# Altium integrated library Capacitor - Ceramic - Sumsung.IntLib: 1421 symbols (part 11 of 22)
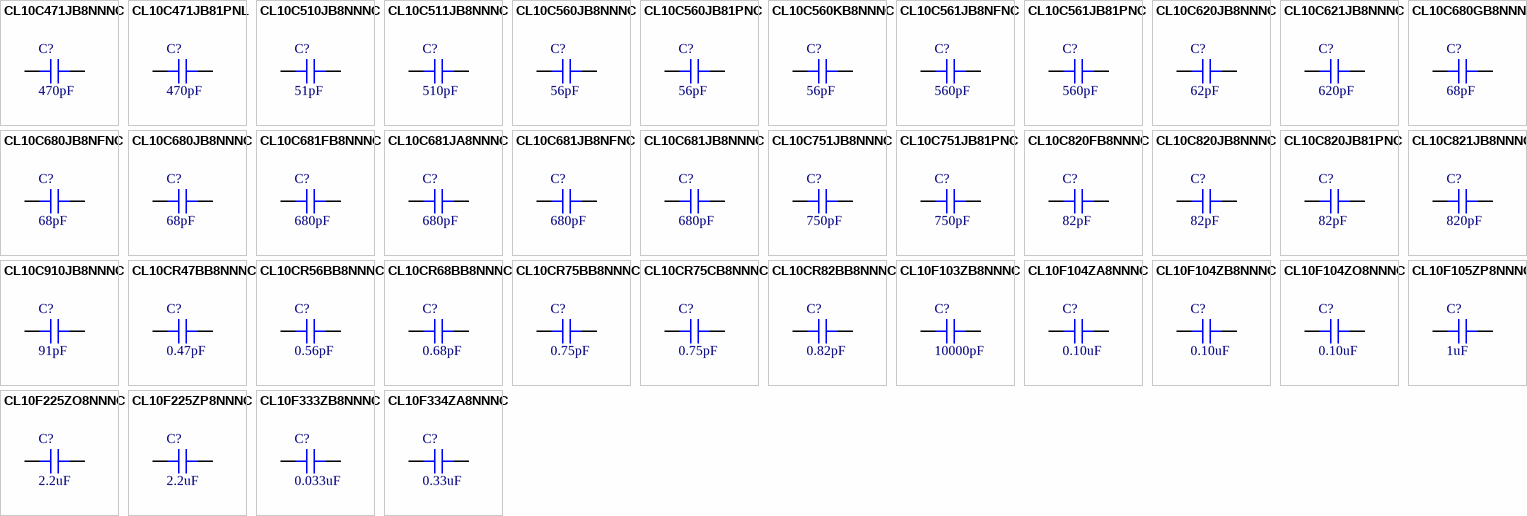
[diagram p45: symbols CL10C471JB8NNNC to CL10F334ZA8NNNC]

## CL10CR75CB8NNNC
designator C?, comment 0.75pF
CAP CER 0.75PF 50V NP0 0603; Part Number: CL10CR75CB8NNNC; Manufacturer: Samsung Electro-Mechanics America, Inc.; TemperatureRange: -55C ~ 125C; TemperatureCoefficient: C0G, NP0; Tolerance: 0.25pF; Value: 0.75pF; PartId: 5391; Supplier 1: Digi-Key; Supplier Part Number 1: 1276-2359-2-ND; ComponentLink1Description: Datasheet; ComponentLink1URL: http://media.digikey.com/pdf/Data%20Sheets/Samsung%20PDFs/CL10CR75CB8NNNC_Spec.pdf; ComponentLink2Description: Digi-Key listing; ComponentLink2URL: http://digikey.com/product-detail/en/CL10CR75CB8NNNC/1276-2359-2-ND/3888017; Voltage: 50V; Price: 0.0107; Type: -; Device Package: 0603 (1608 Metric)
footprint CAP 0603/1608
pins: 1, 2

## CL10CR82BB8NNNC
designator C?, comment 0.82pF
CAP CER 0.82PF 50V NP0 0603; Part Number: CL10CR82BB8NNNC; Manufacturer: Samsung Electro-Mechanics America, Inc.; TemperatureRange: -55C ~ 125C; TemperatureCoefficient: C0G, NP0; Tolerance: 0.1pF; Value: 0.82pF; PartId: 5257; Supplier 1: Digi-Key; Supplier Part Number 1: 1276-2360-2-ND; ComponentLink1Description: Datasheet; ComponentLink1URL: http://media.digikey.com/pdf/Data%20Sheets/Samsung%20PDFs/CL10CR82BB8NNNC_Spec.pdf; ComponentLink2Description: Digi-Key listing; ComponentLink2URL: http://digikey.com/product-detail/en/CL10CR82BB8NNNC/1276-2360-2-ND/3888018; Voltage: 50V; Price: 0.0034; Type: -; Device Package: 0603 (1608 Metric)
footprint CAP 0603/1608
pins: 1, 2

## CL10F103ZB8NNNC
designator C?, comment 10000pF
CAP CER 10000PF 50V Y5V 0603; Part Number: CL10F103ZB8NNNC; Manufacturer: Samsung Electro-Mechanics; TemperatureRange: -30C ~ 85C; TemperatureCoefficient: Y5V (F); Tolerance: -20%, +80%; Value: 10000pF; PartId: 30259; Supplier 1: Digi-Key; Supplier Part Number 1: 1276-2361-2-ND; ComponentLink1Description: Datasheet; ComponentLink1URL: http://www.samsungsem.com/kr/support/product-search/mlcc/CL10F103ZB8NNNC.jsp; ComponentLink2Description: Digi-Key Listing; ComponentLink2URL: https://www.digikey.com/product-detail/en/samsung-electro-mechanics/CL10F103ZB8NNNC/1276-2361-2-ND/3888019; Voltage: 50V; Price: 0; Device Package: 0603 (1608 Metric)
footprint CAP 0603/1608
pins: 1, 2

## CL10F104ZA8NNNC
designator C?, comment 0.10uF
CAP CER 0.1UF 25V Y5V 0603; Part Number: CL10F104ZA8NNNC; Manufacturer: Samsung Electro-Mechanics America, Inc.; TemperatureRange: -30C ~ 85C; TemperatureCoefficient: Y5V (F); Tolerance: -20%, +80%; Value: 0.10uF; PartId: 13015; Supplier 1: Digi-Key; Supplier Part Number 1: 1276-1011-2-ND; ComponentLink1Description: Datasheet; ComponentLink1URL: http://www.samsungsem.com/kr/support/product-search/mlcc/CL10F104ZA8NNNC.jsp; ComponentLink2Description: Digi-Key Listing; ComponentLink2URL: https://www.digikey.com/product-detail/en/samsung-electro-mechanics-america-inc/CL10F104ZA8NNNC/1276-1011-2-ND/3886669; Voltage: 25V; Price: 0.0032; Device Package: 0603 (1608 Metric)
footprint CAP 0603/1608
pins: 1, 2

## CL10F104ZB8NNNC
designator C?, comment 0.10uF
CAP CER 0.1UF 50V Y5V 0603; Part Number: CL10F104ZB8NNNC; Manufacturer: Samsung Electro-Mechanics America, Inc.; TemperatureRange: -30C ~ 85C; TemperatureCoefficient: Y5V (F); Tolerance: -20%, +80%; Value: 0.10uF; PartId: 12990; Supplier 1: Digi-Key; Supplier Part Number 1: 1276-1012-2-ND; ComponentLink1Description: Datasheet; ComponentLink1URL: http://www.samsungsem.com/kr/support/product-search/mlcc/CL10F104ZB8NNNC.jsp; ComponentLink2Description: Digi-Key Listing; ComponentLink2URL: https://www.digikey.com/product-detail/en/samsung-electro-mechanics-america-inc/CL10F104ZB8NNNC/1276-1012-2-ND/3886670; Voltage: 50V; Price: 0.0032; Device Package: 0603 (1608 Metric)
footprint CAP 0603/1608
pins: 1, 2

## CL10F104ZO8NNNC
designator C?, comment 0.10uF
CAP CER 0.1UF 16V Y5V 0603; Part Number: CL10F104ZO8NNNC; Manufacturer: Samsung Electro-Mechanics America, Inc.; TemperatureRange: -30C ~ 85C; TemperatureCoefficient: Y5V (F); Tolerance: -20%, +80%; Value: 0.10uF; PartId: 13336; Supplier 1: Digi-Key; Supplier Part Number 1: 1276-1258-2-ND; ComponentLink1Description: Datasheet; ComponentLink1URL: http://www.samsungsem.com/kr/support/product-search/mlcc/CL10F104ZO8NNNC.jsp; ComponentLink2Description: Digi-Key Listing; ComponentLink2URL: https://www.digikey.com/product-detail/en/samsung-electro-mechanics-america-inc/CL10F104ZO8NNNC/1276-1258-2-ND/3886916; Voltage: 16V; Price: 0.0032; Device Package: 0603 (1608 Metric)
footprint CAP 0603/1608
pins: 1, 2

## CL10F105ZP8NNNC
designator C?, comment 1uF
CAP CER 1UF 10V Y5V 0603; Part Number: CL10F105ZP8NNNC; Manufacturer: Samsung Electro-Mechanics America, Inc.; TemperatureRange: -30C ~ 85C; TemperatureCoefficient: Y5V (F); Tolerance: -20%, +80%; Value: 1uF; PartId: 13159; Supplier 1: Digi-Key; Supplier Part Number 1: 1276-1041-2-ND; ComponentLink1Description: Datasheet; ComponentLink1URL: http://www.samsungsem.com/kr/support/product-search/mlcc/CL10F105ZP8NNNC.jsp; ComponentLink2Description: Digi-Key Listing; ComponentLink2URL: https://www.digikey.com/product-detail/en/samsung-electro-mechanics-america-inc/CL10F105ZP8NNNC/1276-1041-2-ND/3886699; Voltage: 10V; Price: 0.006; Device Package: 0603 (1608 Metric)
footprint CAP 0603/1608
pins: 1, 2

## CL10F225ZO8NNNC
designator C?, comment 2.2uF
CAP CER 2.2UF 16V Y5V 0603; Part Number: CL10F225ZO8NNNC; Manufacturer: Samsung Electro-Mechanics; TemperatureRange: -30C ~ 85C; TemperatureCoefficient: Y5V (F); Tolerance: -20%, +80%; Value: 2.2uF; PartId: 30535; Supplier 1: Digi-Key; Supplier Part Number 1: 1276-6592-2-ND; ComponentLink1Description: Datasheet; ComponentLink1URL: http://www.samsungsem.com/kr/support/product-search/mlcc/CL10F225ZO8NNNC.jsp; ComponentLink2Description: Digi-Key Listing; ComponentLink2URL: https://www.digikey.com/product-detail/en/samsung-electro-mechanics/CL10F225ZO8NNNC/1276-6592-2-ND/5961076; Voltage: 16V; Price: 0; Device Package: 0603 (1608 Metric)
footprint CAP 0603/1608
pins: 1, 2

## CL10F225ZP8NNNC
designator C?, comment 2.2uF
CAP CER 2.2UF 10V Y5V 0603; Part Number: CL10F225ZP8NNNC; Manufacturer: Samsung Electro-Mechanics; TemperatureRange: -30C ~ 85C; TemperatureCoefficient: Y5V (F); Tolerance: -20%, +80%; Value: 2.2uF; PartId: 30683; Supplier 1: Digi-Key; Supplier Part Number 1: 1276-1821-2-ND; ComponentLink1Description: Datasheet; ComponentLink1URL: http://www.samsungsem.com/kr/support/product-search/mlcc/CL10F225ZP8NNNC.jsp; ComponentLink2Description: Digi-Key Listing; ComponentLink2URL: https://www.digikey.com/product-detail/en/samsung-electro-mechanics/CL10F225ZP8NNNC/1276-1821-2-ND/3887479; Voltage: 10V; Price: 0; Device Package: 0603 (1608 Metric)
footprint CAP 0603/1608
pins: 1, 2

## CL10F333ZB8NNNC
designator C?, comment 0.033uF
CAP CER 0.033UF 50V Y5V 0603; Part Number: CL10F333ZB8NNNC; Manufacturer: Samsung Electro-Mechanics; TemperatureRange: -30C ~ 85C; TemperatureCoefficient: Y5V (F); Tolerance: -20%, +80%; Value: 0.033uF; PartId: 30209; Supplier 1: Digi-Key; Supplier Part Number 1: 1276-2369-2-ND; ComponentLink1Description: Datasheet; ComponentLink1URL: http://www.samsungsem.com/kr/support/product-search/mlcc/CL10F333ZB8NNNC.jsp; ComponentLink2Description: Digi-Key Listing; ComponentLink2URL: https://www.digikey.com/product-detail/en/samsung-electro-mechanics/CL10F333ZB8NNNC/1276-2369-2-ND/3888027; Voltage: 50V; Price: 0; Device Package: 0603 (1608 Metric)
footprint CAP 0603/1608
pins: 1, 2

## CL10F334ZA8NNNC
designator C?, comment 0.33uF
CAP CER 0.33UF 25V Y5V 0603; Part Number: CL10F334ZA8NNNC; Manufacturer: Samsung Electro-Mechanics; TemperatureRange: -30C ~ 85C; TemperatureCoefficient: Y5V (F); Tolerance: -20%, +80%; Value: 0.33uF; PartId: 30419; Supplier 1: Digi-Key; Supplier Part Number 1: 1276-2370-2-ND; ComponentLink1Description: Datasheet; ComponentLink1URL: http://www.samsungsem.com/kr/support/product-search/mlcc/CL10F334ZA8NNNC.jsp; ComponentLink2Description: Digi-Key Listing; ComponentLink2URL: https://www.digikey.com/product-detail/en/samsung-electro-mechanics/CL10F334ZA8NNNC/1276-2370-2-ND/3888028; Voltage: 25V; Price: 0; Device Package: 0603 (1608 Metric)
footprint CAP 0603/1608
pins: 1, 2

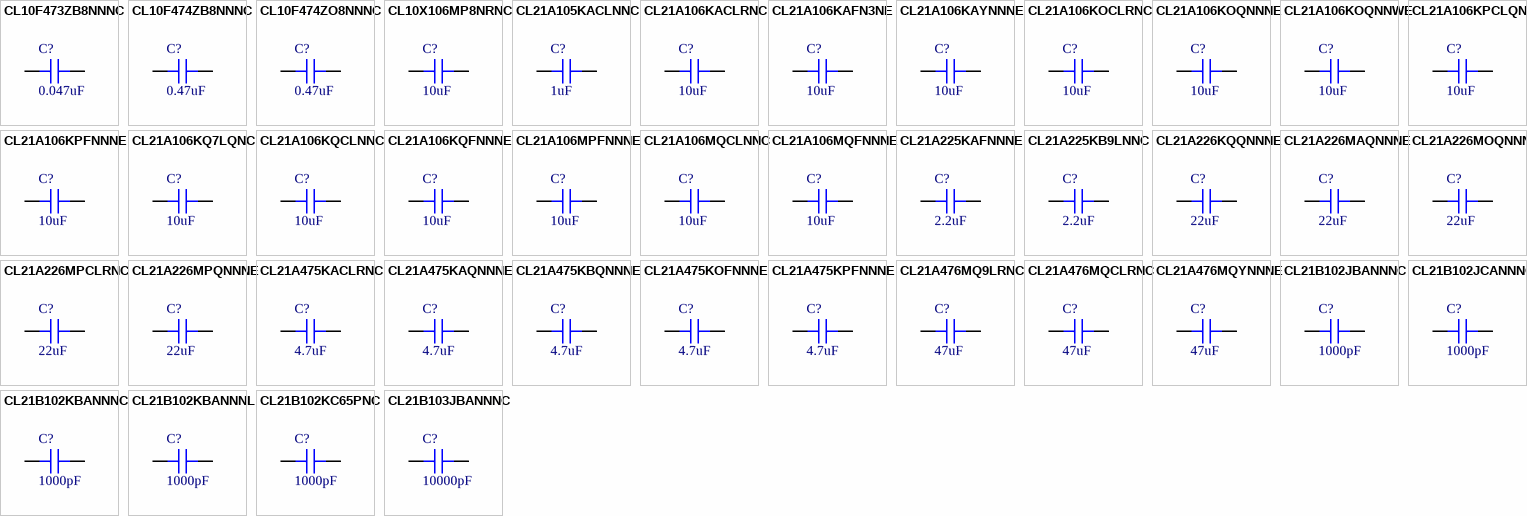
[diagram p17: symbols CL10F473ZB8NNNC to CL21B103JBANNNC]

## CL10F473ZB8NNNC
designator C?, comment 0.047uF
CAP CER 0.047UF 50V Y5V 0603; Part Number: CL10F473ZB8NNNC; Manufacturer: Samsung Electro-Mechanics; TemperatureRange: -30C ~ 85C; TemperatureCoefficient: Y5V (F); Tolerance: -20%, +80%; Value: 0.047uF; PartId: 30229; Supplier 1: Digi-Key; Supplier Part Number 1: 1276-2374-2-ND; ComponentLink1Description: Datasheet; ComponentLink1URL: http://www.samsungsem.com/kr/support/product-search/mlcc/CL10F473ZB8NNNC.jsp; ComponentLink2Description: Digi-Key Listing; ComponentLink2URL: https://www.digikey.com/product-detail/en/samsung-electro-mechanics/CL10F473ZB8NNNC/1276-2374-2-ND/3888032; Voltage: 50V; Price: 0; Device Package: 0603 (1608 Metric)
footprint CAP 0603/1608
pins: 1, 2

## CL10F474ZB8NNNC
designator C?, comment 0.47uF
CAP CER 0.47UF 50V Y5V 0603; Part Number: CL10F474ZB8NNNC; Manufacturer: Samsung Electro-Mechanics America, Inc.; TemperatureRange: -30C ~ 85C; TemperatureCoefficient: Y5V (F); Tolerance: -20%, +80%; Value: 0.47uF; PartId: 13475; Supplier 1: Digi-Key; Supplier Part Number 1: 1276-2377-2-ND; ComponentLink1Description: Datasheet; ComponentLink1URL: http://www.samsungsem.com/kr/support/product-search/mlcc/CL10F474ZB8NNNC.jsp; ComponentLink2Description: Digi-Key Listing; ComponentLink2URL: https://www.digikey.com/product-detail/en/samsung-electro-mechanics-america-inc/CL10F474ZB8NNNC/1276-2377-2-ND/3888035; Voltage: 50V; Price: 0.0073; Device Package: 0603 (1608 Metric)
footprint CAP 0603/1608
pins: 1, 2

## CL10F474ZO8NNNC
designator C?, comment 0.47uF
CAP CER 0.47UF 16V Y5V 0603; Part Number: CL10F474ZO8NNNC; Manufacturer: Samsung Electro-Mechanics; TemperatureRange: -30C ~ 85C; TemperatureCoefficient: Y5V (F); Tolerance: -20%, +80%; Value: 0.47uF; PartId: 30412; Supplier 1: Digi-Key; Supplier Part Number 1: 1276-2378-2-ND; ComponentLink1Description: Datasheet; ComponentLink1URL: http://www.samsungsem.com/kr/support/product-search/mlcc/CL10F474ZO8NNNC.jsp; ComponentLink2Description: Digi-Key Listing; ComponentLink2URL: https://www.digikey.com/product-detail/en/samsung-electro-mechanics/CL10F474ZO8NNNC/1276-2378-2-ND/3888036; Voltage: 16V; Price: 0; Device Package: 0603 (1608 Metric)
footprint CAP 0603/1608
pins: 1, 2

## CL10X106MP8NRNC
designator C?, comment 10uF
CAP CER 10UF 10V X6S 0603; Part Number: CL10X106MP8NRNC; Manufacturer: Samsung Electro-Mechanics America, Inc.; TemperatureRange: -55C ~ 105C; Tolerance: 20%; Value: 10uF; PartId: 13239; Supplier 1: Digi-Key; Supplier Part Number 1: 1276-2383-2-ND; ComponentLink1Description: Datasheet; ComponentLink1URL: http://www.samsungsem.com/kr/support/product-search/mlcc/CL10X106MP8NRNC.jsp; ComponentLink2Description: Digi-Key Listing; ComponentLink2URL: https://www.digikey.com/product-detail/en/samsung-electro-mechanics-america-inc/CL10X106MP8NRNC/1276-2383-2-ND/3888041; TemperatureCoefficient: X6S; Voltage: 10V; Price: 0.0788; Device Package: 0603 (1608 Metric)
footprint CAP 0603/1608
pins: 1, 2

## CL21A105KACLNNC
designator C?, comment 1uF
CAP CER 1UF 25V X5R 0805; Part Number: CL21A105KACLNNC; Manufacturer: Samsung Electro-Mechanics America, Inc.; TemperatureRange: -55C ~ 85C; Tolerance: 10%; Value: 1uF; PartId: 14241; Supplier 1: Digi-Key; Supplier Part Number 1: 1276-2395-2-ND; ComponentLink1Description: Datasheet; ComponentLink1URL: //media.digikey.com/pdf/Data%20Sheets/Samsung%20PDFs/CL21A105KACLNNC_Spec.pdf; ComponentLink2Description: Digi-Key Listing; ComponentLink2URL: https://www.digikey.com/product-detail/en/samsung-electro-mechanics-america-inc/CL21A105KACLNNC/1276-2395-2-ND/3888053; TemperatureCoefficient: X5R; Voltage: 25V; Price: 0.0236; Device Package: 0805 (2012 Metric)
footprint CAP 0805/2012
pins: 1, 2

## CL21A106KACLRNC
designator C?, comment 10uF
CAP CER 10UF 25V X5R 0805; Part Number: CL21A106KACLRNC; Manufacturer: Samsung Electro-Mechanics America, Inc.; TemperatureRange: -55C ~ 85C; Tolerance: 10%; Value: 10uF; PartId: 13891; Supplier 1: Digi-Key; Supplier Part Number 1: 1276-2397-2-ND; ComponentLink1Description: Datasheet; ComponentLink1URL: http://www.samsungsem.com/kr/support/product-search/mlcc/CL21A106KACLRNC.jsp; ComponentLink2Description: Digi-Key Listing; ComponentLink2URL: https://www.digikey.com/product-detail/en/samsung-electro-mechanics-america-inc/CL21A106KACLRNC/1276-2397-2-ND/3888055; TemperatureCoefficient: X5R; Voltage: 25V; Price: 0.0977; Device Package: 0805 (2012 Metric)
footprint CAP 0805/2012
pins: 1, 2

## CL21A106KAFN3NE
designator C?, comment 10uF
CAP CER 10UF 25V X5R 0805; Part Number: CL21A106KAFN3NE; Manufacturer: Samsung Electro-Mechanics America, Inc.; TemperatureRange: -55C ~ 85C; Tolerance: 10%; Value: 10uF; PartId: 13766; Supplier 1: Digi-Key; Supplier Part Number 1: 1276-2890-2-ND; ComponentLink1Description: Datasheet; ComponentLink1URL: //media.digikey.com/pdf/Data%20Sheets/Samsung%20PDFs/CL21A106KAFN3NE_Spec.pdf; ComponentLink2Description: Digi-Key Listing; ComponentLink2URL: https://www.digikey.com/product-detail/en/samsung-electro-mechanics-america-inc/CL21A106KAFN3NE/1276-2890-2-ND/3888548; TemperatureCoefficient: X5R; Voltage: 25V; Price: 0.0396; Device Package: 0805 (2012 Metric)
footprint CAP 0805/2012
pins: 1, 2

## CL21A106KAYNNNE
designator C?, comment 10uF
CAP CER 10UF 25V X5R 0805; Part Number: CL21A106KAYNNNE; Manufacturer: Samsung Electro-Mechanics America, Inc.; TemperatureRange: -55C ~ 85C; Tolerance: 10%; Value: 10uF; PartId: 13738; Supplier 1: Digi-Key; Supplier Part Number 1: 1276-2891-2-ND; ComponentLink1Description: Datasheet; ComponentLink1URL: http://www.samsungsem.com/kr/support/product-search/mlcc/CL21A106KAYNNNE.jsp; ComponentLink2Description: Digi-Key Listing; ComponentLink2URL: https://www.digikey.com/product-detail/en/samsung-electro-mechanics-america-inc/CL21A106KAYNNNE/1276-2891-2-ND/3888549; TemperatureCoefficient: X5R; Voltage: 25V; Price: 0.044; Device Package: 0805 (2012 Metric)
footprint CAP 0805/2012
pins: 1, 2

## CL21A106KOCLRNC
designator C?, comment 10uF
CAP CER 10UF 16V X5R 0805; Part Number: CL21A106KOCLRNC; Manufacturer: Samsung Electro-Mechanics America, Inc.; TemperatureRange: -55C ~ 85C; Tolerance: 10%; Value: 10uF; PartId: 13869; Supplier 1: Digi-Key; Supplier Part Number 1: 1276-2399-2-ND; ComponentLink1Description: Datasheet; ComponentLink1URL: http://www.samsungsem.com/kr/support/product-search/mlcc/CL21A106KOCLRNC.jsp; ComponentLink2Description: Digi-Key Listing; ComponentLink2URL: https://www.digikey.com/product-detail/en/samsung-electro-mechanics-america-inc/CL21A106KOCLRNC/1276-2399-2-ND/3888057; TemperatureCoefficient: X5R; Voltage: 16V; Price: 0.033; Device Package: 0805 (2012 Metric)
footprint CAP 0805/2012
pins: 1, 2

## CL21A106KOQNNNE
designator C?, comment 10uF
CAP CER 10UF 16V X5R 0805; Part Number: CL21A106KOQNNNE; Manufacturer: Samsung Electro-Mechanics America, Inc.; TemperatureRange: -55C ~ 85C; Tolerance: 10%; Value: 10uF; PartId: 13807; Supplier 1: Digi-Key; Supplier Part Number 1: 1276-1096-2-ND; ComponentLink1Description: Datasheet; ComponentLink1URL: http://www.samsungsem.com/kr/support/product-search/mlcc/CL21A106KOQNNNE.jsp; ComponentLink2Description: Digi-Key Listing; ComponentLink2URL: https://www.digikey.com/product-detail/en/samsung-electro-mechanics-america-inc/CL21A106KOQNNNE/1276-1096-2-ND/3886754; TemperatureCoefficient: X5R; Voltage: 16V; Price: 0.0363; Device Package: 0805 (2012 Metric)
footprint CAP 0805/2012
pins: 1, 2

## CL21A106KOQNNWE
designator C?, comment 10uF
CAP CER 10UF 16V X5R 0805; Part Number: CL21A106KOQNNWE; Manufacturer: Samsung Electro-Mechanics America, Inc.; TemperatureRange: -55C ~ 85C; Tolerance: 10%; Value: 10uF; PartId: 14194; Supplier 1: Digi-Key; Supplier Part Number 1: 1276-2894-2-ND; ComponentLink1Description: Datasheet; ComponentLink1URL: //media.digikey.com/pdf/Data%20Sheets/Samsung%20PDFs/CL21A106KOQNNWE_Spec.pdf; ComponentLink2Description: Digi-Key Listing; ComponentLink2URL: https://www.digikey.com/product-detail/en/samsung-electro-mechanics-america-inc/CL21A106KOQNNWE/1276-2894-2-ND/3888552; TemperatureCoefficient: X5R; Voltage: 16V; Price: 0.0363; Device Package: 0805 (2012 Metric)
footprint CAP 0805/2012
pins: 1, 2

## CL21A106KPCLQNC
designator C?, comment 10uF
CAP CER 10UF 10V X5R 0805; Part Number: CL21A106KPCLQNC; Manufacturer: Samsung Electro-Mechanics America, Inc.; TemperatureRange: -55C ~ 85C; Tolerance: 10%; Value: 10uF; PartId: 13829; Supplier 1: Digi-Key; Supplier Part Number 1: 1276-2402-2-ND; ComponentLink1Description: Datasheet; ComponentLink1URL: //media.digikey.com/pdf/Data%20Sheets/Samsung%20PDFs/CL21A106KPCLQNC_character.pdf; ComponentLink2Description: Digi-Key Listing; ComponentLink2URL: https://www.digikey.com/product-detail/en/samsung-electro-mechanics-america-inc/CL21A106KPCLQNC/1276-2402-2-ND/3888060; TemperatureCoefficient: X5R; Voltage: 10V; Price: 0.0301; Device Package: 0805 (2012 Metric)
footprint CAP 0805/2012
pins: 1, 2

## CL21A106KPFNNNE
designator C?, comment 10uF
CAP CER 10UF 10V X5R 0805; Part Number: CL21A106KPFNNNE; Manufacturer: Samsung Electro-Mechanics America, Inc.; TemperatureRange: -55C ~ 85C; Tolerance: 10%; Value: 10uF; PartId: 13860; Supplier 1: Digi-Key; Supplier Part Number 1: 1276-1052-2-ND; ComponentLink1Description: Datasheet; ComponentLink1URL: http://www.samsungsem.com/kr/support/product-search/mlcc/CL21A106KPFNNNE.jsp; ComponentLink2Description: Digi-Key Listing; ComponentLink2URL: https://www.digikey.com/product-detail/en/samsung-electro-mechanics-america-inc/CL21A106KPFNNNE/1276-1052-2-ND/3886710; TemperatureCoefficient: X5R; Voltage: 10V; Price: 0.0329; Device Package: 0805 (2012 Metric)
footprint CAP 0805/2012
pins: 1, 2

## CL21A106KQ7LQNC
designator C?, comment 10uF
CAP CER 10UF 6.3V X5R 0805; Part Number: CL21A106KQ7LQNC; Manufacturer: Samsung Electro-Mechanics America, Inc.; TemperatureRange: -55C ~ 85C; Tolerance: 10%; Value: 10uF; PartId: 14220; Supplier 1: Digi-Key; Supplier Part Number 1: 1276-2403-2-ND; ComponentLink1Description: Datasheet; ComponentLink1URL: //media.digikey.com/pdf/Data%20Sheets/Samsung%20PDFs/CL21A106KQ7LQNC_Spec.pdf; ComponentLink2Description: Digi-Key Listing; ComponentLink2URL: https://www.digikey.com/product-detail/en/samsung-electro-mechanics-america-inc/CL21A106KQ7LQNC/1276-2403-2-ND/3888061; TemperatureCoefficient: X5R; Voltage: 6.3V; Price: 0.0281; Device Package: 0805 (2012 Metric)
footprint CAP 0805/2012
pins: 1, 2

## CL21A106KQCLNNC
designator C?, comment 10uF
CAP CER 10UF 6.3V X5R 0805; Part Number: CL21A106KQCLNNC; Manufacturer: Samsung Electro-Mechanics America, Inc.; TemperatureRange: -55C ~ 85C; Tolerance: 10%; Value: 10uF; PartId: 14053; Supplier 1: Digi-Key; Supplier Part Number 1: 1276-2404-2-ND; ComponentLink1Description: Datasheet; ComponentLink1URL: http://www.samsungsem.com/kr/support/product-search/mlcc/CL21A106KQCLNNC.jsp; ComponentLink2Description: Digi-Key Listing; ComponentLink2URL: https://www.digikey.com/product-detail/en/samsung-electro-mechanics-america-inc/CL21A106KQCLNNC/1276-2404-2-ND/3888062; TemperatureCoefficient: X5R; Voltage: 6.3V; Price: 0.0225; Device Package: 0805 (2012 Metric)
footprint CAP 0805/2012
pins: 1, 2

## CL21A106KQFNNNE
designator C?, comment 10uF
CAP CER 10UF 6.3V X5R 0805; Part Number: CL21A106KQFNNNE; Manufacturer: Samsung Electro-Mechanics America, Inc.; TemperatureRange: -55C ~ 85C; Tolerance: 10%; Value: 10uF; PartId: 14383; Supplier 1: Digi-Key; Supplier Part Number 1: 1276-1122-2-ND; ComponentLink1Description: Datasheet; ComponentLink1URL: http://www.samsungsem.com/kr/support/product-search/mlcc/CL21A106KQFNNNE.jsp; ComponentLink2Description: Digi-Key Listing; ComponentLink2URL: https://www.digikey.com/product-detail/en/samsung-electro-mechanics-america-inc/CL21A106KQFNNNE/1276-1122-2-ND/3886780; TemperatureCoefficient: X5R; Voltage: 6.3V; Price: 0.0246; Device Package: 0805 (2012 Metric)
footprint CAP 0805/2012
pins: 1, 2

## CL21A106MPFNNNE
designator C?, comment 10uF
CAP CER 10UF 10V X5R 0805; Part Number: CL21A106MPFNNNE; Manufacturer: Samsung Electro-Mechanics America, Inc.; TemperatureRange: -55C ~ 85C; Tolerance: 20%; Value: 10uF; PartId: 14065; Supplier 1: Digi-Key; Supplier Part Number 1: 1276-1144-2-ND; ComponentLink1Description: Datasheet; ComponentLink1URL: http://www.samsungsem.com/kr/support/product-search/mlcc/CL21A106MPFNNNE.jsp; ComponentLink2Description: Digi-Key Listing; ComponentLink2URL: https://www.digikey.com/product-detail/en/samsung-electro-mechanics-america-inc/CL21A106MPFNNNE/1276-1144-2-ND/3886802; TemperatureCoefficient: X5R; Voltage: 10V; Price: 0.0329; Device Package: 0805 (2012 Metric)
footprint CAP 0805/2012
pins: 1, 2

## CL21A106MQCLNNC
designator C?, comment 10uF
CAP CER 10UF 6.3V X5R 0805; Part Number: CL21A106MQCLNNC; Manufacturer: Samsung Electro-Mechanics America, Inc.; TemperatureRange: -55C ~ 85C; Tolerance: 20%; Value: 10uF; PartId: 14052; Supplier 1: Digi-Key; Supplier Part Number 1: 1276-2407-2-ND; ComponentLink1Description: Datasheet; ComponentLink1URL: //media.digikey.com/pdf/Data%20Sheets/Samsung%20PDFs/CL21A106MQCLNNC_Spec.pdf; ComponentLink2Description: Digi-Key Listing; ComponentLink2URL: https://www.digikey.com/product-detail/en/samsung-electro-mechanics-america-inc/CL21A106MQCLNNC/1276-2407-2-ND/3888065; TemperatureCoefficient: X5R; Voltage: 6.3V; Price: 0.0225; Device Package: 0805 (2012 Metric)
footprint CAP 0805/2012
pins: 1, 2

## CL21A106MQFNNNE
designator C?, comment 10uF
CAP CER 10UF 6.3V X5R 0805; Part Number: CL21A106MQFNNNE; Manufacturer: Samsung Electro-Mechanics America, Inc.; TemperatureRange: -55C ~ 85C; Tolerance: 20%; Value: 10uF; PartId: 14350; Supplier 1: Digi-Key; Supplier Part Number 1: 1276-1298-2-ND; ComponentLink1Description: Datasheet; ComponentLink1URL: http://www.samsungsem.com/kr/support/product-search/mlcc/CL21A106MQFNNNE.jsp; ComponentLink2Description: Digi-Key Listing; ComponentLink2URL: https://www.digikey.com/product-detail/en/samsung-electro-mechanics-america-inc/CL21A106MQFNNNE/1276-1298-2-ND/3886956; TemperatureCoefficient: X5R; Voltage: 6.3V; Price: 0.0246; Device Package: 0805 (2012 Metric)
footprint CAP 0805/2012
pins: 1, 2

## CL21A225KAFNNNE
designator C?, comment 2.2uF
CAP CER 2.2UF 25V X5R 0805; Part Number: CL21A225KAFNNNE; Manufacturer: Samsung Electro-Mechanics America, Inc.; TemperatureRange: -55C ~ 85C; Tolerance: 10%; Value: 2.2uF; PartId: 13946; Supplier 1: Digi-Key; Supplier Part Number 1: 1276-1763-2-ND; ComponentLink1Description: Datasheet; ComponentLink1URL: http://www.samsungsem.com/kr/support/product-search/mlcc/CL21A225KAFNNNE.jsp; ComponentLink2Description: Digi-Key Listing; ComponentLink2URL: https://www.digikey.com/product-detail/en/samsung-electro-mechanics-america-inc/CL21A225KAFNNNE/1276-1763-2-ND/3887421; TemperatureCoefficient: X5R; Voltage: 25V; Price: 0.0374; Device Package: 0805 (2012 Metric)
footprint CAP 0805/2012
pins: 1, 2

## CL21A225KB9LNNC
designator C?, comment 2.2uF
CAP CER 2.2UF 50V X5R 0805; Part Number: CL21A225KB9LNNC; Manufacturer: Samsung Electro-Mechanics America, Inc.; TemperatureRange: -55C ~ 85C; Tolerance: 10%; Value: 2.2uF; PartId: 13764; Supplier 1: Digi-Key; Supplier Part Number 1: 1276-2409-2-ND; ComponentLink1Description: Datasheet; ComponentLink1URL: http://www.samsungsem.com/kr/support/product-search/mlcc/CL21A225KB9LNNC.jsp; ComponentLink2Description: Digi-Key Listing; ComponentLink2URL: https://www.digikey.com/product-detail/en/samsung-electro-mechanics-america-inc/CL21A225KB9LNNC/1276-2409-2-ND/3888067; TemperatureCoefficient: X5R; Voltage: 50V; Price: 0.116; Device Package: 0805 (2012 Metric)
footprint CAP 0805/2012
pins: 1, 2

## CL21A226KQQNNNE
designator C?, comment 22uF
CAP CER 22UF 6.3V X5R 0805; Part Number: CL21A226KQQNNNE; Manufacturer: Samsung Electro-Mechanics America, Inc.; TemperatureRange: -55C ~ 85C; Tolerance: 10%; Value: 22uF; PartId: 13798; Supplier 1: Digi-Key; Supplier Part Number 1: 1276-2907-2-ND; ComponentLink1Description: Datasheet; ComponentLink1URL: http://www.samsungsem.com/kr/support/product-search/mlcc/CL21A226KQQNNNE.jsp; ComponentLink2Description: Digi-Key Listing; ComponentLink2URL: https://www.digikey.com/product-detail/en/samsung-electro-mechanics-america-inc/CL21A226KQQNNNE/1276-2907-2-ND/3888565; TemperatureCoefficient: X5R; Voltage: 6.3V; Price: 0.1056; Device Package: 0805 (2012 Metric)
footprint CAP 0805/2012
pins: 1, 2

## CL21A226MAQNNNE
designator C?, comment 22uF
CAP CER 22UF 25V X5R 0805; Part Number: CL21A226MAQNNNE; Manufacturer: Samsung Electro-Mechanics America, Inc.; TemperatureRange: -55C ~ 85C; Tolerance: 20%; Value: 22uF; PartId: 13713; Supplier 1: Digi-Key; Supplier Part Number 1: 1276-2908-2-ND; ComponentLink1Description: Datasheet; ComponentLink1URL: http://www.samsungsem.com/kr/support/product-search/mlcc/CL21A226MAQNNNE.jsp; ComponentLink2Description: Digi-Key Listing; ComponentLink2URL: https://www.digikey.com/product-detail/en/samsung-electro-mechanics-america-inc/CL21A226MAQNNNE/1276-2908-2-ND/3888566; TemperatureCoefficient: X5R; Voltage: 25V; Price: 0.2642; Device Package: 0805 (2012 Metric)
footprint CAP 0805/2012
pins: 1, 2

## CL21A226MOQNNNE
designator C?, comment 22uF
CAP CER 22UF 16V X5R 0805; Part Number: CL21A226MOQNNNE; Manufacturer: Samsung Electro-Mechanics America, Inc.; TemperatureRange: -55C ~ 85C; Tolerance: 20%; Value: 22uF; PartId: 13784; Supplier 1: Digi-Key; Supplier Part Number 1: 1276-2909-2-ND; ComponentLink1Description: Datasheet; ComponentLink1URL: http://www.samsungsem.com/kr/support/product-search/mlcc/CL21A226MOQNNNE.jsp; ComponentLink2Description: Digi-Key Listing; ComponentLink2URL: https://www.digikey.com/product-detail/en/samsung-electro-mechanics-america-inc/CL21A226MOQNNNE/1276-2909-2-ND/3888567; TemperatureCoefficient: X5R; Voltage: 16V; Price: 0.1411; Device Package: 0805 (2012 Metric)
footprint CAP 0805/2012
pins: 1, 2

## CL21A226MPCLRNC
designator C?, comment 22uF
CAP CER 22UF 10V X5R 0805; Part Number: CL21A226MPCLRNC; Manufacturer: Samsung Electro-Mechanics America, Inc.; TemperatureRange: -55C ~ 85C; Tolerance: 20%; Value: 22uF; PartId: 13780; Supplier 1: Digi-Key; Supplier Part Number 1: 1276-1822-2-ND; ComponentLink1Description: Datasheet; ComponentLink1URL: http://www.samsungsem.com/kr/support/product-search/mlcc/CL21A226MPCLRNC.jsp; ComponentLink2Description: Digi-Key Listing; ComponentLink2URL: https://www.digikey.com/product-detail/en/samsung-electro-mechanics-america-inc/CL21A226MPCLRNC/1276-1822-2-ND/3887480; TemperatureCoefficient: X5R; Voltage: 10V; Price: 0.1147; Device Package: 0805 (2012 Metric)
footprint CAP 0805/2012
pins: 1, 2

## CL21A226MPQNNNE
designator C?, comment 22uF
CAP CER 22UF 10V X5R 0805; Part Number: CL21A226MPQNNNE; Manufacturer: Samsung Electro-Mechanics America, Inc.; TemperatureRange: -55C ~ 85C; Tolerance: 20%; Value: 22uF; PartId: 13744; Supplier 1: Digi-Key; Supplier Part Number 1: 1276-2910-2-ND; ComponentLink1Description: Datasheet; ComponentLink1URL: http://www.samsungsem.com/kr/support/product-search/mlcc/CL21A226MPQNNNE.jsp; ComponentLink2Description: Digi-Key Listing; ComponentLink2URL: https://www.digikey.com/product-detail/en/samsung-electro-mechanics-america-inc/CL21A226MPQNNNE/1276-2910-2-ND/3888568; TemperatureCoefficient: X5R; Voltage: 10V; Price: 0.117; Device Package: 0805 (2012 Metric)
footprint CAP 0805/2012
pins: 1, 2

## CL21A475KACLRNC
designator C?, comment 4.7uF
CAP CER 4.7UF 25V X5R 0805; Part Number: CL21A475KACLRNC; Manufacturer: Samsung Electro-Mechanics America, Inc.; TemperatureRange: -55C ~ 85C; Tolerance: 10%; Value: 4.7uF; PartId: 14236; Supplier 1: Digi-Key; Supplier Part Number 1: 1276-2415-2-ND; ComponentLink1Description: Datasheet; ComponentLink1URL: //media.digikey.com/pdf/Data%20Sheets/Samsung%20PDFs/CL21A475KACLRNC_Spec.pdf; ComponentLink2Description: Digi-Key Listing; ComponentLink2URL: https://www.digikey.com/product-detail/en/samsung-electro-mechanics-america-inc/CL21A475KACLRNC/1276-2415-2-ND/3888073; TemperatureCoefficient: X5R; Voltage: 25V; Price: 0.0305; Device Package: 0805 (2012 Metric)
footprint CAP 0805/2012
pins: 1, 2

## CL21A475KAQNNNE
designator C?, comment 4.7uF
CAP CER 4.7UF 25V X5R 0805; Part Number: CL21A475KAQNNNE; Manufacturer: Samsung Electro-Mechanics America, Inc.; TemperatureRange: -55C ~ 85C; Tolerance: 10%; Value: 4.7uF; PartId: 13763; Supplier 1: Digi-Key; Supplier Part Number 1: 1276-1244-2-ND; ComponentLink1Description: Datasheet; ComponentLink1URL: http://www.samsungsem.com/kr/support/product-search/mlcc/CL21A475KAQNNNE.jsp; ComponentLink2Description: Digi-Key Listing; ComponentLink2URL: https://www.digikey.com/product-detail/en/samsung-electro-mechanics-america-inc/CL21A475KAQNNNE/1276-1244-2-ND/3886902; TemperatureCoefficient: X5R; Voltage: 25V; Price: 0.031; Device Package: 0805 (2012 Metric)
footprint CAP 0805/2012
pins: 1, 2

## CL21A475KBQNNNE
designator C?, comment 4.7uF
CAP CER 4.7UF 50V X5R 0805; Part Number: CL21A475KBQNNNE; Manufacturer: Samsung Electro-Mechanics America, Inc.; TemperatureRange: -55C ~ 85C; Tolerance: 10%; Value: 4.7uF; PartId: 13761; Supplier 1: Digi-Key; Supplier Part Number 1: 1276-1248-2-ND; ComponentLink1Description: Datasheet; ComponentLink1URL: http://www.samsungsem.com/kr/support/product-search/mlcc/CL21A475KBQNNNE.jsp; ComponentLink2Description: Digi-Key Listing; ComponentLink2URL: https://www.digikey.com/product-detail/en/samsung-electro-mechanics-america-inc/CL21A475KBQNNNE/1276-1248-2-ND/3886906; TemperatureCoefficient: X5R; Voltage: 50V; Price: 0.0889; Device Package: 0805 (2012 Metric)
footprint CAP 0805/2012
pins: 1, 2

## CL21A475KOFNNNE
designator C?, comment 4.7uF
CAP CER 4.7UF 16V X5R 0805; Part Number: CL21A475KOFNNNE; Manufacturer: Samsung Electro-Mechanics America, Inc.; TemperatureRange: -55C ~ 85C; Tolerance: 10%; Value: 4.7uF; PartId: 13781; Supplier 1: Digi-Key; Supplier Part Number 1: 1276-1065-2-ND; ComponentLink1Description: Datasheet; ComponentLink1URL: http://www.samsungsem.com/kr/support/product-search/mlcc/CL21A475KOFNNNE.jsp; ComponentLink2Description: Digi-Key Listing; ComponentLink2URL: https://www.digikey.com/product-detail/en/samsung-electro-mechanics-america-inc/CL21A475KOFNNNE/1276-1065-2-ND/3886723; TemperatureCoefficient: X5R; Voltage: 16V; Price: 0.0282; Device Package: 0805 (2012 Metric)
footprint CAP 0805/2012
pins: 1, 2

## CL21A475KPFNNNE
designator C?, comment 4.7uF
CAP CER 4.7UF 10V X5R 0805; Part Number: CL21A475KPFNNNE; Manufacturer: Samsung Electro-Mechanics America, Inc.; TemperatureRange: -55C ~ 85C; Tolerance: 10%; Value: 4.7uF; PartId: 13876; Supplier 1: Digi-Key; Supplier Part Number 1: 1276-1259-2-ND; ComponentLink1Description: Datasheet; ComponentLink1URL: http://www.samsungsem.com/kr/support/product-search/mlcc/CL21A475KPFNNNE.jsp; ComponentLink2Description: Digi-Key Listing; ComponentLink2URL: https://www.digikey.com/product-detail/en/samsung-electro-mechanics-america-inc/CL21A475KPFNNNE/1276-1259-2-ND/3886917; TemperatureCoefficient: X5R; Voltage: 10V; Price: 0.0282; Device Package: 0805 (2012 Metric)
footprint CAP 0805/2012
pins: 1, 2

## CL21A476MQ9LRNC
designator C?, comment 47uF
CAP CER 47UF 6.3V X5R 0805; Part Number: CL21A476MQ9LRNC; Manufacturer: Samsung Electro-Mechanics America, Inc.; TemperatureRange: -55C ~ 85C; Tolerance: 20%; Value: 47uF; PartId: 13873; Supplier 1: Digi-Key; Supplier Part Number 1: 1276-2419-2-ND; ComponentLink1Description: Datasheet; ComponentLink1URL: //media.digikey.com/pdf/Data%20Sheets/Samsung%20PDFs/CL21A476MQ9LRNC_Spec.pdf; ComponentLink2Description: Digi-Key Listing; ComponentLink2URL: https://www.digikey.com/product-detail/en/samsung-electro-mechanics-america-inc/CL21A476MQ9LRNC/1276-2419-2-ND/3888077; TemperatureCoefficient: X5R; Voltage: 6.3V; Price: 0.1854; Device Package: 0805 (2012 Metric)
footprint CAP 0805/2012
pins: 1, 2

## CL21A476MQCLRNC
designator C?, comment 47uF
CAP CER 47UF 6.3V X5R 0805; Part Number: CL21A476MQCLRNC; Manufacturer: Samsung Electro-Mechanics America, Inc.; TemperatureRange: -55C ~ 85C; Tolerance: 20%; Value: 47uF; PartId: 13745; Supplier 1: Digi-Key; Supplier Part Number 1: 1276-2420-2-ND; ComponentLink1Description: Datasheet; ComponentLink1URL: http://www.samsungsem.com/kr/support/product-search/mlcc/CL21A476MQCLRNC.jsp; ComponentLink2Description: Digi-Key Listing; ComponentLink2URL: https://www.digikey.com/product-detail/en/samsung-electro-mechanics-america-inc/CL21A476MQCLRNC/1276-2420-2-ND/3888078; TemperatureCoefficient: X5R; Voltage: 6.3V; Price: 0.165; Device Package: 0805 (2012 Metric)
footprint CAP 0805/2012
pins: 1, 2

## CL21A476MQYNNNE
designator C?, comment 47uF
CAP CER 47UF 6.3V X5R 0805; Part Number: CL21A476MQYNNNE; Manufacturer: Samsung Electro-Mechanics America, Inc.; TemperatureRange: -55C ~ 85C; Tolerance: 20%; Value: 47uF; PartId: 13886; Supplier 1: Digi-Key; Supplier Part Number 1: 1276-1852-2-ND; ComponentLink1Description: Datasheet; ComponentLink1URL: http://www.samsungsem.com/kr/support/product-search/mlcc/CL21A476MQYNNNE.jsp; ComponentLink2Description: Digi-Key Listing; ComponentLink2URL: https://www.digikey.com/product-detail/en/samsung-electro-mechanics-america-inc/CL21A476MQYNNNE/1276-1852-2-ND/3887510; TemperatureCoefficient: X5R; Voltage: 6.3V; Price: 0.176; Device Package: 0805 (2012 Metric)
footprint CAP 0805/2012
pins: 1, 2

## CL21B102JBANNNC
designator C?, comment 1000pF
CAP CER 1000PF 50V X7R 0805; Part Number: CL21B102JBANNNC; Manufacturer: Samsung Electro-Mechanics America, Inc.; TemperatureRange: -55C ~ 125C; Tolerance: 5%; Value: 1000pF; PartId: 5832; Supplier 1: Digi-Key; Supplier Part Number 1: 1276-1823-2-ND; ComponentLink1Description: Datasheet; ComponentLink1URL: http://www.samsungsem.com/kr/support/product-search/mlcc/CL21B102JBANNNC.jsp; ComponentLink2Description: Digi-Key listing; ComponentLink2URL: http://digikey.com/product-detail/en/CL21B102JBANNNC/1276-1823-2-ND/3887481; TemperatureCoefficient: X7R; Voltage: 50V; Price: 0.023; Type: -; Device Package: 0805 (2012 Metric)
footprint CAP 0805/2012
pins: 1, 2

## CL21B102JCANNNC
designator C?, comment 1000pF
CAP CER 1000PF 100V X7R 0805; Part Number: CL21B102JCANNNC; Manufacturer: Samsung Electro-Mechanics America, Inc.; TemperatureRange: -55C ~ 125C; Tolerance: 5%; Value: 1000pF; PartId: 5918; Supplier 1: Digi-Key; Supplier Part Number 1: 1276-2421-2-ND; ComponentLink1Description: Datasheet; ComponentLink1URL: http://www.samsungsem.com/kr/support/product-search/mlcc/CL21B102JCANNNC.jsp; ComponentLink2Description: Digi-Key listing; ComponentLink2URL: http://digikey.com/product-detail/en/CL21B102JCANNNC/1276-2421-2-ND/3888079; TemperatureCoefficient: X7R; Voltage: 100V; Price: 0.0401; Type: -; Device Package: 0805 (2012 Metric)
footprint CAP 0805/2012
pins: 1, 2

## CL21B102KBANNNC
designator C?, comment 1000pF
CAP CER 1000PF 50V X7R 0805; Part Number: CL21B102KBANNNC; Manufacturer: Samsung Electro-Mechanics America, Inc.; TemperatureRange: -55C ~ 125C; Tolerance: 10%; Value: 1000pF; PartId: 13773; Supplier 1: Digi-Key; Supplier Part Number 1: 1276-1020-2-ND; ComponentLink1Description: Datasheet; ComponentLink1URL: http://www.samsungsem.com/kr/support/product-search/mlcc/CL21B102KBANNNC.jsp; ComponentLink2Description: Digi-Key Listing; ComponentLink2URL: https://www.digikey.com/product-detail/en/samsung-electro-mechanics-america-inc/CL21B102KBANNNC/1276-1020-2-ND/3886678; TemperatureCoefficient: X7R; Voltage: 50V; Price: 0.0069; Device Package: 0805 (2012 Metric)
footprint CAP 0805/2012
pins: 1, 2

## CL21B102KBANNNL
designator C?, comment 1000pF
CAP CER 1000PF 50V X7R 0805; Part Number: CL21B102KBANNNL; Manufacturer: Samsung Electro-Mechanics America, Inc.; TemperatureRange: -55C ~ 125C; Tolerance: 10%; Value: 1000pF; PartId: 5665; Supplier 1: Digi-Key; Supplier Part Number 1: CL21B102KBANNNL-ND; ComponentLink1Description: Datasheet; ComponentLink1URL: http://www.samsungsem.com/kr/support/product-search/mlcc/CL21B102KBANNNL.jsp; ComponentLink2Description: Digi-Key listing; ComponentLink2URL: http://digikey.com/product-detail/en/CL21B102KBANNNL/CL21B102KBANNNL-ND/3894450; TemperatureCoefficient: X7R; Voltage: 50V; Price: 0.0041; Type: -; Device Package: 0805 (2012 Metric)
footprint CAP 0805/2012
pins: 1, 2

## CL21B102KC65PNC
designator C?, comment 1000pF
CAP CER 1000PF 100V X7R 0805; Part Number: CL21B102KC65PNC; Manufacturer: Samsung Electro-Mechanics America, Inc.; TemperatureRange: -55C ~ 125C; Tolerance: 10%; Value: 1000pF; PartId: 14296; Supplier 1: Digi-Key; Supplier Part Number 1: 1276-2426-2-ND; ComponentLink1Description: Datasheet; ComponentLink1URL: //media.digikey.com/pdf/Data%20Sheets/Samsung%20PDFs/CL21B102KC65PNC_Spec.pdf; ComponentLink2Description: Digi-Key Listing; ComponentLink2URL: https://www.digikey.com/product-detail/en/samsung-electro-mechanics-america-inc/CL21B102KC65PNC/1276-2426-2-ND/3888084; TemperatureCoefficient: X7R; Voltage: 100V; Price: 0.0165; Device Package: 0805 (2012 Metric)
footprint CAP 0805/2012
pins: 1, 2

## CL21B103JBANNNC
designator C?, comment 10000pF
CAP CER 10000PF 50V X7R 0805; Part Number: CL21B103JBANNNC; Manufacturer: Samsung Electro-Mechanics America, Inc.; TemperatureRange: -55C ~ 125C; Tolerance: 5%; Value: 10000pF; PartId: 14087; Supplier 1: Digi-Key; Supplier Part Number 1: 1276-1245-2-ND; ComponentLink1Description: Datasheet; ComponentLink1URL: http://www.samsungsem.com/kr/support/product-search/mlcc/CL21B103JBANNNC.jsp; ComponentLink2Description: Digi-Key Listing; ComponentLink2URL: https://www.digikey.com/product-detail/en/samsung-electro-mechanics-america-inc/CL21B103JBANNNC/1276-1245-2-ND/3886903; TemperatureCoefficient: X7R; Voltage: 50V; Price: 0.0151; Device Package: 0805 (2012 Metric)
footprint CAP 0805/2012
pins: 1, 2

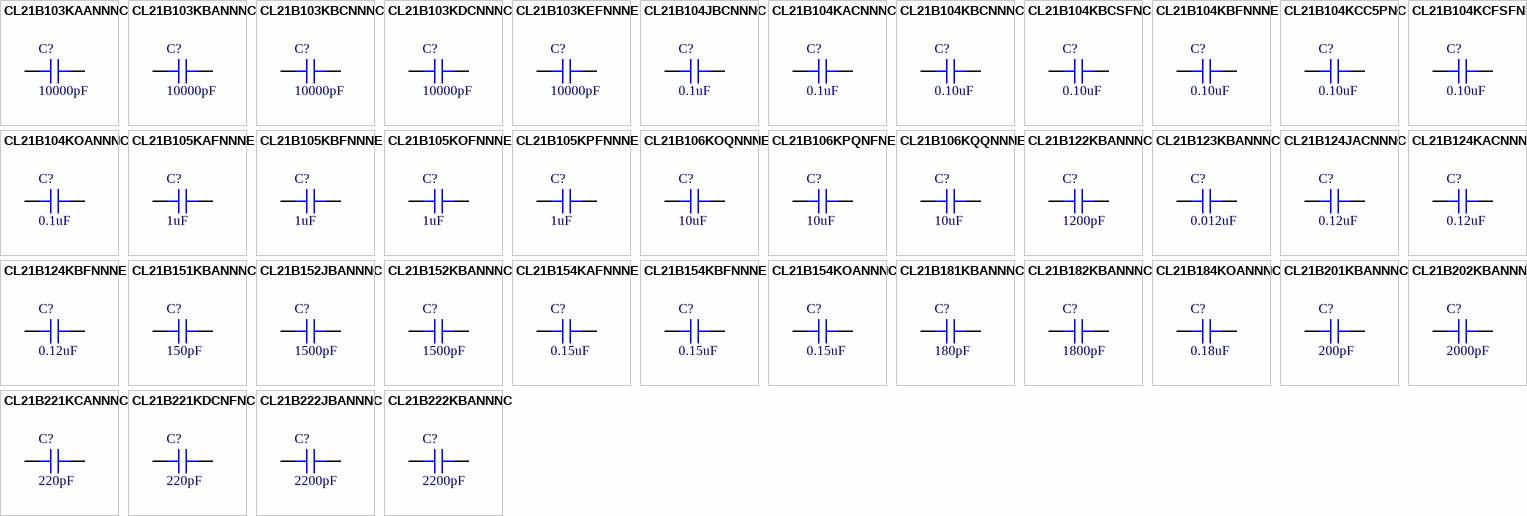
[diagram p18: symbols CL21B103KAANNNC to CL21B222KBANNNC]

## CL21B103KAANNNC
designator C?, comment 10000pF
CAP CER 10000PF 25V X7R 0805; Part Number: CL21B103KAANNNC; Manufacturer: Samsung Electro-Mechanics America, Inc.; TemperatureRange: -55C ~ 125C; Tolerance: 10%; Value: 10000pF; PartId: 5695; Supplier 1: Digi-Key; Supplier Part Number 1: 1276-2434-2-ND; ComponentLink1Description: Datasheet; ComponentLink1URL: http://www.samsungsem.com/kr/support/product-search/mlcc/CL21B103KAANNNC.jsp; ComponentLink2Description: Digi-Key listing; ComponentLink2URL: http://digikey.com/product-detail/en/CL21B103KAANNNC/1276-2434-2-ND/3888092; TemperatureCoefficient: X7R; Voltage: 25V; Price: 0.0081; Type: -; Device Package: 0805 (2012 Metric)
footprint CAP 0805/2012
pins: 1, 2

## CL21B103KBANNNC
designator C?, comment 10000pF
CAP CER 10000PF 50V X7R 0805; Part Number: CL21B103KBANNNC; Manufacturer: Samsung Electro-Mechanics America, Inc.; TemperatureRange: -55C ~ 125C; Tolerance: 10%; Value: 10000pF; PartId: 13759; Supplier 1: Digi-Key; Supplier Part Number 1: 1276-1015-2-ND; ComponentLink1Description: Datasheet; ComponentLink1URL: http://www.samsungsem.com/kr/support/product-search/mlcc/CL21B103KBANNNC.jsp; ComponentLink2Description: Digi-Key Listing; ComponentLink2URL: https://www.digikey.com/product-detail/en/samsung-electro-mechanics-america-inc/CL21B103KBANNNC/1276-1015-2-ND/3886673; TemperatureCoefficient: X7R; Voltage: 50V; Price: 0.0056; Device Package: 0805 (2012 Metric)
footprint CAP 0805/2012
pins: 1, 2

## CL21B103KBCNNNC
designator C?, comment 10000pF
CAP CER 10000PF 50V X7R 0805; Part Number: CL21B103KBCNNNC; Manufacturer: Samsung Electro-Mechanics America, Inc.; TemperatureRange: -55C ~ 125C; Tolerance: 10%; Value: 10000pF; PartId: 13919; Supplier 1: Digi-Key; Supplier Part Number 1: 1276-1078-2-ND; ComponentLink1Description: Datasheet; ComponentLink1URL: http://www.samsungsem.com/kr/support/product-search/mlcc/CL21B103KBCNNNC.jsp; ComponentLink2Description: Digi-Key Listing; ComponentLink2URL: https://www.digikey.com/product-detail/en/samsung-electro-mechanics-america-inc/CL21B103KBCNNNC/1276-1078-2-ND/3886736; TemperatureCoefficient: X7R; Voltage: 50V; Price: 0.0056; Device Package: 0805 (2012 Metric)
footprint CAP 0805/2012
pins: 1, 2

## CL21B103KDCNNNC
designator C?, comment 10000pF
CAP CER 10000PF 200V X7R 0805; Part Number: CL21B103KDCNNNC; Manufacturer: Samsung Electro-Mechanics America, Inc.; TemperatureRange: -55C ~ 125C; Tolerance: 10%; Value: 10000pF; PartId: 5868; Supplier 1: Digi-Key; Supplier Part Number 1: 1276-1170-2-ND; ComponentLink1Description: Datasheet; ComponentLink1URL: http://www.samsungsem.com/global/front/downloadcms.do?path=%2F%2Fglobal%2F%2Fsupport%2F%2Flibrary%2F%2Fproduct-catalog%2F%2F__icsFiles%2F%2Fafieldfile%2F%2F2015%2F%2F11%2F%2F18&fileName=MLCC_1.pdf; ComponentLink2Description: Digi-Key listing; ComponentLink2URL: http://digikey.com/product-detail/en/CL21B103KDCNNNC/1276-1170-2-ND/3886828; TemperatureCoefficient: X7R; Voltage: 200V; Price: 0.0286; Type: -; Device Package: 0805 (2012 Metric)
footprint CAP 0805/2012
pins: 1, 2

## CL21B103KEFNNNE
designator C?, comment 10000pF
CAP CER 10000PF 250V X7R 0805; Part Number: CL21B103KEFNNNE; Manufacturer: Samsung Electro-Mechanics America, Inc.; TemperatureRange: -55C ~ 125C; Tolerance: 10%; Value: 10000pF; PartId: 5912; Supplier 1: Digi-Key; Supplier Part Number 1: 1276-2921-2-ND; ComponentLink1Description: Datasheet; ComponentLink1URL: http://media.digikey.com/pdf/Data%20Sheets/Samsung%20PDFs/CL21B103KEFNNNE_Spec.pdf; ComponentLink2Description: Digi-Key listing; ComponentLink2URL: http://digikey.com/product-detail/en/CL21B103KEFNNNE/1276-2921-2-ND/3888579; TemperatureCoefficient: X7R; Voltage: 250V; Price: 0.0371; Type: -; Device Package: 0805 (2012 Metric)
footprint CAP 0805/2012
pins: 1, 2

## CL21B104JBCNNNC
designator C?, comment 0.1uF
CAP CER 0.1UF 50V X7R 0805; Part Number: CL21B104JBCNNNC; Manufacturer: Samsung Electro-Mechanics America, Inc.; TemperatureRange: -55C ~ 125C; Tolerance: 5%; Value: 0.1uF; PartId: 5847; Supplier 1: Digi-Key; Supplier Part Number 1: 1276-1090-2-ND; ComponentLink1Description: Datasheet; ComponentLink1URL: http://www.samsungsem.com/kr/support/product-search/mlcc/CL21B104JBCNNNC.jsp; ComponentLink2Description: Digi-Key listing; ComponentLink2URL: http://digikey.com/product-detail/en/CL21B104JBCNNNC/1276-1090-2-ND/3886748; TemperatureCoefficient: X7R; Voltage: 50V; Price: 0.0245; Type: -; Device Package: 0805 (2012 Metric)
footprint CAP 0805/2012
pins: 1, 2

## CL21B104KACNNNC
designator C?, comment 0.1uF
CAP CER 0.1UF 25V X7R 0805; Part Number: CL21B104KACNNNC; Manufacturer: Samsung Electro-Mechanics America, Inc.; TemperatureRange: -55C ~ 125C; Tolerance: 10%; Value: 0.1uF; PartId: 5699; Supplier 1: Digi-Key; Supplier Part Number 1: 1276-1099-2-ND; ComponentLink1Description: Datasheet; ComponentLink1URL: http://www.samsungsem.com/kr/support/product-search/mlcc/CL21B104KACNNNC.jsp; ComponentLink2Description: Digi-Key listing; ComponentLink2URL: http://digikey.com/product-detail/en/CL21B104KACNNNC/1276-1099-2-ND/3886757; TemperatureCoefficient: X7R; Voltage: 25V; Price: 0.0099; Type: -; Device Package: 0805 (2012 Metric)
footprint CAP 0805/2012
pins: 1, 2

## CL21B104KBCNNNC
designator C?, comment 0.10uF
CAP CER 0.1UF 50V X7R 0805; Part Number: CL21B104KBCNNNC; Manufacturer: Samsung Electro-Mechanics America, Inc.; TemperatureRange: -55C ~ 125C; Tolerance: 10%; Value: 0.10uF; PartId: 13700; Supplier 1: Digi-Key; Supplier Part Number 1: 1276-1003-2-ND; ComponentLink1Description: Datasheet; ComponentLink1URL: http://www.samsungsem.com/kr/support/product-search/mlcc/CL21B104KBCNNNC.jsp; ComponentLink2Description: Digi-Key Listing; ComponentLink2URL: https://www.digikey.com/product-detail/en/samsung-electro-mechanics-america-inc/CL21B104KBCNNNC/1276-1003-2-ND/3886661; TemperatureCoefficient: X7R; Voltage: 50V; Price: 0.0092; Device Package: 0805 (2012 Metric)
footprint CAP 0805/2012
pins: 1, 2

## CL21B104KBCSFNC
designator C?, comment 0.10uF
CAP CER 0.1UF 50V X7R 0805; Part Number: CL21B104KBCSFNC; Manufacturer: Samsung Electro-Mechanics America, Inc.; TemperatureRange: -55C ~ 125C; Tolerance: 10%; Value: 0.10uF; PartId: 13972; Supplier 1: Digi-Key; Supplier Part Number 1: 1276-2446-2-ND; ComponentLink1Description: Datasheet; ComponentLink1URL: http://www.samsungsem.com/kr/support/product-search/mlcc/CL21B104KBCSFNC.jsp; ComponentLink2Description: Digi-Key Listing; ComponentLink2URL: https://www.digikey.com/product-detail/en/samsung-electro-mechanics-america-inc/CL21B104KBCSFNC/1276-2446-2-ND/3888104; TemperatureCoefficient: X7R; Voltage: 50V; Price: 0.0097; Device Package: 0805 (2012 Metric)
footprint CAP 0805/2012
pins: 1, 2

## CL21B104KBFNNNE
designator C?, comment 0.10uF
CAP CER 0.1UF 50V X7R 0805; Part Number: CL21B104KBFNNNE; Manufacturer: Samsung Electro-Mechanics America, Inc.; TemperatureRange: -55C ~ 125C; Tolerance: 10%; Value: 0.10uF; PartId: 13810; Supplier 1: Digi-Key; Supplier Part Number 1: 1276-1180-2-ND; ComponentLink1Description: Datasheet; ComponentLink1URL: http://www.samsungsem.com/kr/support/product-search/mlcc/CL21B104KBFNNNE.jsp; ComponentLink2Description: Digi-Key Listing; ComponentLink2URL: https://www.digikey.com/product-detail/en/samsung-electro-mechanics-america-inc/CL21B104KBFNNNE/1276-1180-2-ND/3886838; TemperatureCoefficient: X7R; Voltage: 50V; Price: 0.0075; Device Package: 0805 (2012 Metric)
footprint CAP 0805/2012
pins: 1, 2

## CL21B104KCC5PNC
designator C?, comment 0.10uF
CAP CER 0.1UF 100V X7R 0805; Part Number: CL21B104KCC5PNC; Manufacturer: Samsung Electro-Mechanics America, Inc.; TemperatureRange: -55C ~ 125C; Tolerance: 10%; Value: 0.10uF; PartId: 14071; Supplier 1: Digi-Key; Supplier Part Number 1: 1276-2447-2-ND; ComponentLink1Description: Datasheet; ComponentLink1URL: //media.digikey.com/pdf/Data%20Sheets/Samsung%20PDFs/CL21B104KCC5PNC_Spec.pdf; ComponentLink2Description: Digi-Key Listing; ComponentLink2URL: https://www.digikey.com/product-detail/en/samsung-electro-mechanics-america-inc/CL21B104KCC5PNC/1276-2447-2-ND/3888105; TemperatureCoefficient: X7R; Voltage: 100V; Price: 0.0149; Device Package: 0805 (2012 Metric)
footprint CAP 0805/2012
pins: 1, 2

## CL21B104KCFSFNE
designator C?, comment 0.10uF
CAP CER 0.1UF 100V X7R 0805; Part Number: CL21B104KCFSFNE; Manufacturer: Samsung Electro-Mechanics America, Inc.; TemperatureRange: -55C ~ 125C; Tolerance: 10%; Value: 0.10uF; PartId: 13753; Supplier 1: Digi-Key; Supplier Part Number 1: 1276-2923-2-ND; ComponentLink1Description: Datasheet; ComponentLink1URL: //media.digikey.com/pdf/Data%20Sheets/Samsung%20PDFs/CL21B104KCFSFNE_Spec.pdf; ComponentLink2Description: Digi-Key Listing; ComponentLink2URL: https://www.digikey.com/product-detail/en/samsung-electro-mechanics-america-inc/CL21B104KCFSFNE/1276-2923-2-ND/3888581; TemperatureCoefficient: X7R; Voltage: 100V; Price: 0.029; Device Package: 0805 (2012 Metric)
footprint CAP 0805/2012
pins: 1, 2

## CL21B104KOANNNC
designator C?, comment 0.1uF
CAP CER 0.1UF 16V X7R 0805; Part Number: CL21B104KOANNNC; Manufacturer: Samsung Electro-Mechanics America, Inc.; TemperatureRange: -55C ~ 125C; Tolerance: 10%; Value: 0.1uF; PartId: 5700; Supplier 1: Digi-Key; Supplier Part Number 1: 1276-2448-2-ND; ComponentLink1Description: Datasheet; ComponentLink1URL: http://www.samsungsem.com/kr/support/product-search/mlcc/CL21B104KOANNNC.jsp; ComponentLink2Description: Digi-Key listing; ComponentLink2URL: http://digikey.com/product-detail/en/CL21B104KOANNNC/1276-2448-2-ND/3888106; TemperatureCoefficient: X7R; Voltage: 16V; Price: 0.0099; Type: -; Device Package: 0805 (2012 Metric)
footprint CAP 0805/2012
pins: 1, 2

## CL21B105KAFNNNE
designator C?, comment 1uF
CAP CER 1UF 25V X7R 0805; Part Number: CL21B105KAFNNNE; Manufacturer: Samsung Electro-Mechanics America, Inc.; TemperatureRange: -55C ~ 125C; Tolerance: 10%; Value: 1uF; PartId: 13769; Supplier 1: Digi-Key; Supplier Part Number 1: 1276-1066-2-ND; ComponentLink1Description: Datasheet; ComponentLink1URL: http://www.samsungsem.com/kr/support/product-search/mlcc/CL21B105KAFNNNE.jsp; ComponentLink2Description: Digi-Key Listing; ComponentLink2URL: https://www.digikey.com/product-detail/en/samsung-electro-mechanics-america-inc/CL21B105KAFNNNE/1276-1066-2-ND/3886724; TemperatureCoefficient: X7R; Voltage: 25V; Price: 0.0168; Device Package: 0805 (2012 Metric)
footprint CAP 0805/2012
pins: 1, 2

## CL21B105KBFNNNE
designator C?, comment 1uF
CAP CER 1UF 50V X7R 0805; Part Number: CL21B105KBFNNNE; Manufacturer: Samsung Electro-Mechanics America, Inc.; TemperatureRange: -55C ~ 125C; Tolerance: 10%; Value: 1uF; PartId: 13727; Supplier 1: Digi-Key; Supplier Part Number 1: 1276-1029-2-ND; ComponentLink1Description: Datasheet; ComponentLink1URL: http://www.samsungsem.com/kr/support/product-search/mlcc/CL21B105KBFNNNE.jsp; ComponentLink2Description: Digi-Key Listing; ComponentLink2URL: https://www.digikey.com/product-detail/en/samsung-electro-mechanics-america-inc/CL21B105KBFNNNE/1276-1029-2-ND/3886687; TemperatureCoefficient: X7R; Voltage: 50V; Price: 0.038; Device Package: 0805 (2012 Metric)
footprint CAP 0805/2012
pins: 1, 2

## CL21B105KOFNNNE
designator C?, comment 1uF
CAP CER 1UF 16V X7R 0805; Part Number: CL21B105KOFNNNE; Manufacturer: Samsung Electro-Mechanics America, Inc.; TemperatureRange: -55C ~ 125C; Tolerance: 10%; Value: 1uF; PartId: 13857; Supplier 1: Digi-Key; Supplier Part Number 1: 1276-1026-2-ND; ComponentLink1Description: Datasheet; ComponentLink1URL: http://www.samsungsem.com/kr/front/downloadcms.do?path=/kr/support/product-search/mlcc/__icsFiles/afieldfile/2014/11/05&fileName=C_CL21B105KOFNNNE.pdf; ComponentLink2Description: Digi-Key Listing; ComponentLink2URL: https://www.digikey.com/product-detail/en/samsung-electro-mechanics-america-inc/CL21B105KOFNNNE/1276-1026-2-ND/3886684; TemperatureCoefficient: X7R; Voltage: 16V; Price: 0.0137; Device Package: 0805 (2012 Metric)
footprint CAP 0805/2012
pins: 1, 2